# EAGLE library part T3A-6120 (library STEMTera)
T3A-6120CDB DAB / DAB+ / FM /RDS module T3B-6260CDB DAB / DAB+ / FM /RDS module
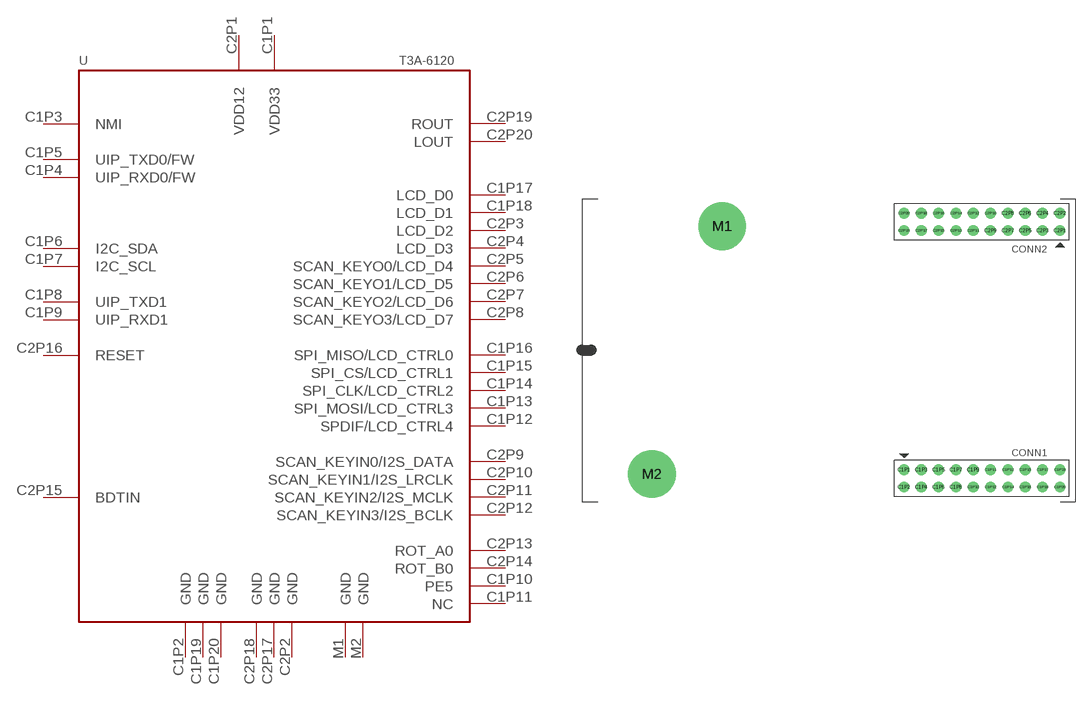
[diagram p16: symbol with the pads of T3A-6120; footprint T3A-6120]

Designator prefix -

## T3A-6120  [T3A-6120]
C1P1  VDD33  pwr
C1P2  GND  pwr
C1P3  NMI  in
C1P4  UIP_RXD0/FW
C1P5  UIP_TXD0/FW
C1P6  I2C_SDA
C1P7  I2C_SCL
C1P8  UIP_TXD1
C1P9  UIP_RXD1
C1P10  PE5
C1P11  NC  nc
C1P12  SPDIF/LCD_CTRL4
C1P13  SPI_MOSI/LCD_CTRL3
C1P14  SPI_CLK/LCD_CTRL2
C1P15  SPI_CS/LCD_CTRL1
C1P16  SPI_MISO/LCD_CTRL0
C1P17  LCD_D0
C1P18  LCD_D1
C1P19  GND  pwr
C1P20  GND  pwr
C2P1  VDD12  pwr
C2P2  GND  pwr
C2P3  LCD_D2
C2P4  LCD_D3
C2P5  SCAN_KEYO0/LCD_D4
C2P6  SCAN_KEYO1/LCD_D5
C2P7  SCAN_KEYO2/LCD_D6
C2P8  SCAN_KEYO3/LCD_D7
C2P9  SCAN_KEYIN0/I2S_DATA
C2P10  SCAN_KEYIN1/I2S_LRCLK
C2P11  SCAN_KEYIN2/I2S_MCLK
C2P12  SCAN_KEYIN3/I2S_BCLK
C2P13  ROT_A0
C2P14  ROT_B0
C2P15  BDTIN  pas
C2P16  RESET  in
C2P17  GND  pwr
C2P18  GND  pwr
C2P19  ROUT  pas
C2P20  LOUT  pas
M1  GND  pwr
M2  GND  pwr

## Footprint T3A-6120 (pad centres in mm)
T3A-6120CDB DAB / DAB+ / FM /RDS module
drill 0.71: C1P1 8.67,-16.17; C1P2 8.67,-18.17; C1P3 10.67,-16.17; C1P4 10.67,-18.17; C1P5 12.67,-16.17; C1P6 12.67,-18.17; C1P7 14.67,-16.17; C1P8 14.67,-18.17; C1P9 16.67,-16.17; C1P10 16.67,-18.17; C1P11 18.67,-16.17; C1P12 18.67,-18.17; C1P13 20.67,-16.17; C1P14 20.67,-18.17; C1P15 22.67,-16.17; C1P16 22.67,-18.17; C1P17 24.67,-16.17; C1P18 24.67,-18.17; C1P19 26.67,-16.17; C1P20 26.67,-18.17; C2P1 26.67,11.43; C2P2 26.67,13.43; C2P3 24.67,11.43; C2P4 24.67,13.43; C2P5 22.67,11.43; C2P6 22.67,13.43; C2P7 20.67,11.43; C2P8 20.67,13.43; C2P9 18.67,11.43; C2P10 18.67,13.43; C2P11 16.67,11.43; C2P12 16.67,13.43; C2P13 14.67,11.43; C2P14 14.67,13.43; C2P15 12.67,11.43; C2P16 12.67,13.43; C2P17 10.67,11.43; C2P18 10.67,13.43; C2P19 8.67,11.43; C2P20 8.67,13.43
drill 3 pad 5.5: M1 -12.33,11.93; M2 -20.43,-16.67